# Altium footprint library CAP 0805 16V.PcbLib: 2 footprints
Each footprint in its own frame and in the unit in brackets; x right, y up, seen from the top. Pads: shape width x height; smd on the part's side, far side on the other; paste and mask are expansions set on the pad; w line width, h text height; cw(c..) or ccw(c..) is an arc to the next point about the centre after c.
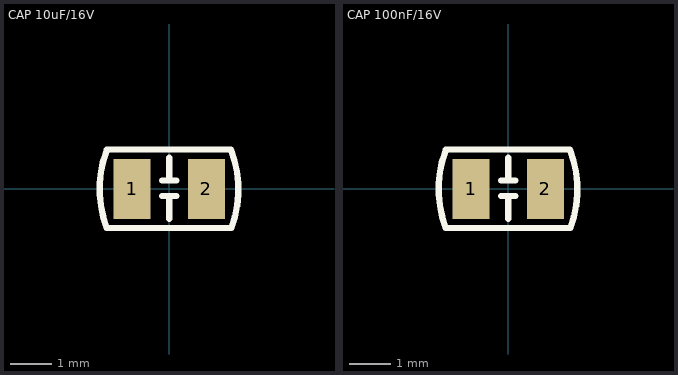
[diagram p0: the footprints below, top view; thin cyan lines are the x and y axes]

## CAP 10uF/16V [mm] "10µF ±10% 16V Ceramic Capacitor X5R 0805 (2012 Metric)"
pads (2):
  rect 0.9x1.45 smd: 1(-0.901,0) 2(0.899,0)
Top Overlay:
  lines w0.152: -1.514,-0.938 cw(c0.969,0) -1.511,0.944 ; -1.51,-0.95 1.5,-0.95 ; -1.5,0.95 1.49,0.95 ; -0.175,-0.175 0.175,-0.175 ; -0.175,0.2 0.175,0.2 ; 0,-0.725 0,-0.175 ; 0,0.2 0,0.75 ; 1.496,0.942 cw(c-0.981,-0.01) 1.505,-0.938
3D body "Capacitor SMD 0805.step": height 0.61, standoff 0.01, extent -1.03,-0.62 0.97,0.63

## CAP 100nF/16V [mm] "0.1µF ±20% 16V Ceramic Capacitor Y5V (F) 0805 (2012 Metric)"
pads (2):
  rect 0.9x1.45 smd: 1(-0.901,0) 2(0.899,0)
Top Overlay:
  lines w0.152: -1.514,-0.938 cw(c0.969,0) -1.511,0.944 ; -1.51,-0.95 1.5,-0.95 ; -1.5,0.95 1.49,0.95 ; -0.175,-0.175 0.175,-0.175 ; -0.175,0.2 0.175,0.2 ; 0,-0.725 0,-0.175 ; 0,0.2 0,0.75 ; 1.496,0.942 cw(c-0.981,-0.01) 1.505,-0.938
3D body "Capacitor SMD 0805.step": height 0.61, standoff 0.01, extent -1.03,-0.62 0.97,0.63